# EAGLE library part 2-1734742-4 (library 2-1734742-4)
Conn FPC Connector SKT 24 POS 0.5mm Solder ST SMD T/R
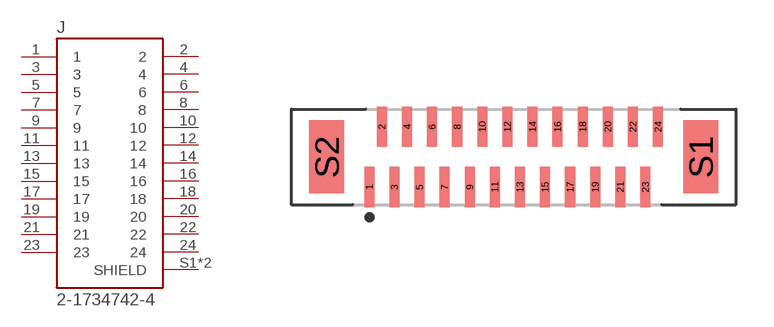
[diagram p0: symbol with the pads of TE_2-1734742-4; footprint TE_2-1734742-4]

Designator prefix J

## 2-1734742-4 (Availability: Unavailable; Comment: 2-1734742-4; Description: Conn FPC Connector SKT 24 POS 0.5mm Solder ST SMD T/R; EU_RoHS_Compliance: Compliant; MF: TE Connectivity; MP: 2-1734742-4; Package: None; Price: None; TE_purchase_URL: https://www.te.com/usa-en/product-2-1734742-4.html?te_bu=Cor&te_type=disp&te_campaign=seda_glo_cor-seda-global-disp-prtnr-fy19-seda-model-bom-cta_sma-317_1&elqCampaignId=32493)  [TE_2-1734742-4]
1  1  pas
2  2  pas
3  3  pas
4  4  pas
5  5  pas
6  6  pas
7  7  pas
8  8  pwr
9  9  pas
10  10  pas
11  11  pas
12  12  pas
13  13  pas
14  14  pas
15  15  pas
16  16  pas
17  17  pas
18  18  pas
19  19  pas
20  20  pas
21  21  pas
22  22  pas
23  23  pas
24  24  pas
S1  SHIELD  pas
S2  SHIELD  pas

## Footprint TE_2-1734742-4 (pad centres in mm)
smd 0.4 x 1.6: 1 -5.75,-1.2; 2 -5.25,1.2; 3 -4.75,-1.2; 4 -4.25,1.2; 5 -3.75,-1.2; 6 -3.25,1.2; 7 -2.75,-1.2; 8 -2.25,1.2; 9 -1.75,-1.2; 10 -1.25,1.2; 11 -0.75,-1.2; 12 -0.25,1.2; 13 0.25,-1.2; 14 0.75,1.2; 15 1.25,-1.2; 16 1.75,1.2; 17 2.25,-1.2; 18 2.75,1.2; 19 3.25,-1.2; 20 3.75,1.2; 21 4.25,-1.2; 22 4.75,1.2; 23 5.25,-1.2; 24 5.75,1.2
smd 1.4 x 2.9: S1 7.45,0; S2 -7.45,0